# Altium footprint library 2010[5125].PcbLib: 1 footprints
Each footprint in its own frame and in the unit in brackets; x right, y up, seen from the top. Pads: shape width x height; smd on the part's side, far side on the other; paste and mask are expansions set on the pad; w line width, h text height; cw(c..) or ccw(c..) is an arc to the next point about the centre after c.
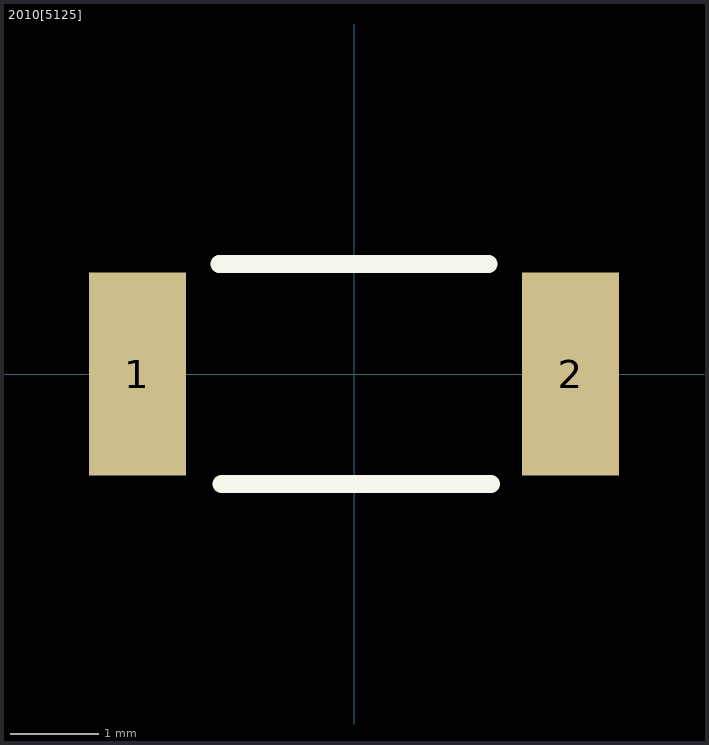
[diagram p0: the footprint, top view; thin cyan lines are the x and y axes]

## 2010[5125] [mm]
height 0.6
pads (2):
  rect 1.1x2.3 smd: 1(-2.45,0) 2(2.45,0)
Top Overlay:
  lines w0.2: -1.524,1.245 1.524,1.245 ; -1.499,-1.245 1.549,-1.245
3D body: height 0.6, standoff 0, extent -2.5,-1.25 2.5,1.25